# Altium schematic symbol library ABS04W-32.768KHZ-6-D2-T5.SchLib: 1 symbol
Pins are listed as number, name and electrical type; pins without a type are passive.

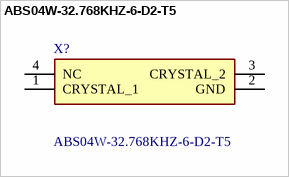
[diagram p0: symbol ABS04W-32.768KHZ-6-D2-T5]

## ABS04W-32.768KHZ-6-D2-T5
designator X?
32.768 kHz +/-20ppm Crystal 6pF 130 kOhms 4-SMD, No Lead; Manufacturer_Name: ABRACON; Geometry.Height: 0.35mm; Mouser Part Number: 815-04W-32.768-6-D2T; Mouser Price/Stock: https://www.mouser.co.uk/ProductDetail/ABRACON/ABS04W-32.768KHZ-6-D2-T5?qs=lc2O%252BfHJPVZbxXtU7CitfQ%3D%3D; Manufacturer_Part_Number: ABS04W-32.768KHZ-6-D2-T5; Datasheet Link: https://abracon.com/datasheets/ABS04W.pdf
footprint ABS04W32768KHZ6D2T5
pins: 1 CRYSTAL_1, 2 GND, 3 CRYSTAL_2, 4 NC